# Altium footprint library WE-HCC.PcbLib: 3 footprints
Each footprint in its own frame and in the unit in brackets; x right, y up, seen from the top. Pads: shape width x height; smd on the part's side, far side on the other; paste and mask are expansions set on the pad; w line width, h text height; cw(c..) or ccw(c..) is an arc to the next point about the centre after c.
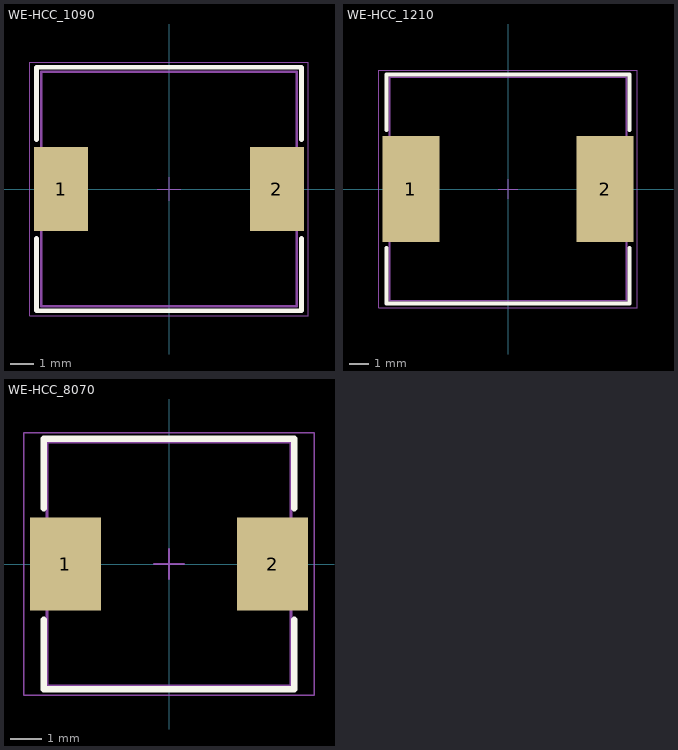
[diagram p0: the footprints below, top view; thin cyan lines are the x and y axes]

## WE-HCC_1090 [mm] "SMT High Current Cube Inductor, 2-Leads, body 10.9x10mm"
height 9.3
pads (2):
  rect 2.3x3.6 smd: 1(-4.6,0) 2(4.6,0)
Top Overlay:
  lines w0.2: -5.65,-2.1 -5.65,-5.2 5.65,-5.2 5.65,-2.1 ; -5.65,2.1 -5.65,5.2 5.65,5.2 5.65,2.1
Top Component Outline:
  lines w0.1: -5.45,-5 5.45,-5 5.45,5 -5.45,5 -5.45,-5
Top Courtyard:
  lines w0.05: -5.95,-5.4 -5.95,5.4 5.95,5.4 5.95,-5.4 -5.95,-5.4
Top Component Center:
  lines w0.05: -0.5,0 0.5,0 ; 0,-0.5 0,0.5
Top Designator (Mech19):
  text ".Designator" at -7.498,-0.5 h1.5
3D body "7443330xxx.stp": height 9.3, standoff 0, extent -5.125,-5 5.125,5

## WE-HCC_1210 [mm] "SMT High Current Cube Inductor, 2-Leads, body 12.1x11.4mm"
height 9.5
pads (2):
  rect 2.9x5.4 smd: 1(-4.95,0) 2(4.95,0)
Top Overlay:
  lines w0.2: -6.2,-3 -6.2,-5.85 6.2,-5.85 6.2,-3 ; -6.2,3 -6.2,5.85 6.2,5.85 6.2,3
Top Component Outline:
  lines w0.1: -6.05,-5.7 6.05,-5.7 6.05,5.7 -6.05,5.7 -6.05,-5.7
Top Courtyard:
  lines w0.05: -6.6,-6.05 -6.6,6.05 6.6,6.05 6.6,-6.05 -6.6,-6.05
Top Component Center:
  lines w0.05: -0.5,0 0.5,0 ; 0,-0.5 0,0.5
Top Designator (Mech19):
  text ".Designator" at -7.498,-0.5 h1.5
3D body "744332xxxx.stp": height 9.5, standoff 0, extent -6.05,-5.7 6.05,5.7

## WE-HCC_8070 [mm] "SMT High Current Cube Inductor, 2-Leads, body 7.9x7.9mm"
height 7.2
pads (2):
  rect 2.3x3 smd: 1(-3.35,0) 2(3.35,0)
Top Overlay:
  lines w0.2: -4.05,-1.8 -4.05,-4.05 4.05,-4.05 4.05,-1.8 ; -4.05,1.8 -4.05,4.05 4.05,4.05 4.05,1.8
Top Component Outline:
  lines w0.1: -3.95,-3.95 -3.95,3.95 3.95,3.95 3.95,-3.95 -3.95,-3.95
Top Courtyard:
  lines w0.05: -4.7,-4.25 4.7,-4.25 4.7,4.25 -4.7,4.25 -4.7,-4.25
Top Component Center:
  lines w0.05: -0.5,0 0.5,0 ; 0,-0.5 0,0.5
Top Designator (Mech19):
  text ".Designator" at -7.498,-0.5 h1.5
3D body "7443340xxx.stp": height 7.23, standoff 0.03, extent -4.2,-3.95 4.2,3.95